# Altium schematic symbol library XTAL,40MHz,12pF,SMD.Schlib: 1 symbol
Pins are listed as number, name and electrical type; pins without a type are passive.

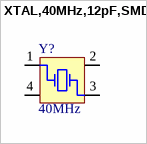
[diagram p0: symbol XTAL,40MHz,12pF,SMD]

## XTAL,40MHz,12pF,SMD
designator Y?, comment 40MHz
40 MHz ±7ppm Crystal 12pF 25 Ohms 4-SMD, No Lead
pins: 1 OSC1, 2 GND, 3 OSC2, 4 GND